# Altium footprint library USB.PcbLib: 54 footprints (part 4 of 4)
Each footprint in its own frame and in the unit in brackets; x right, y up, seen from the top. Pads: shape width x height; smd on the part's side, far side on the other; paste and mask are expansions set on the pad; w line width, h text height; cw(c..) or ccw(c..) is an arc to the next point about the centre after c.
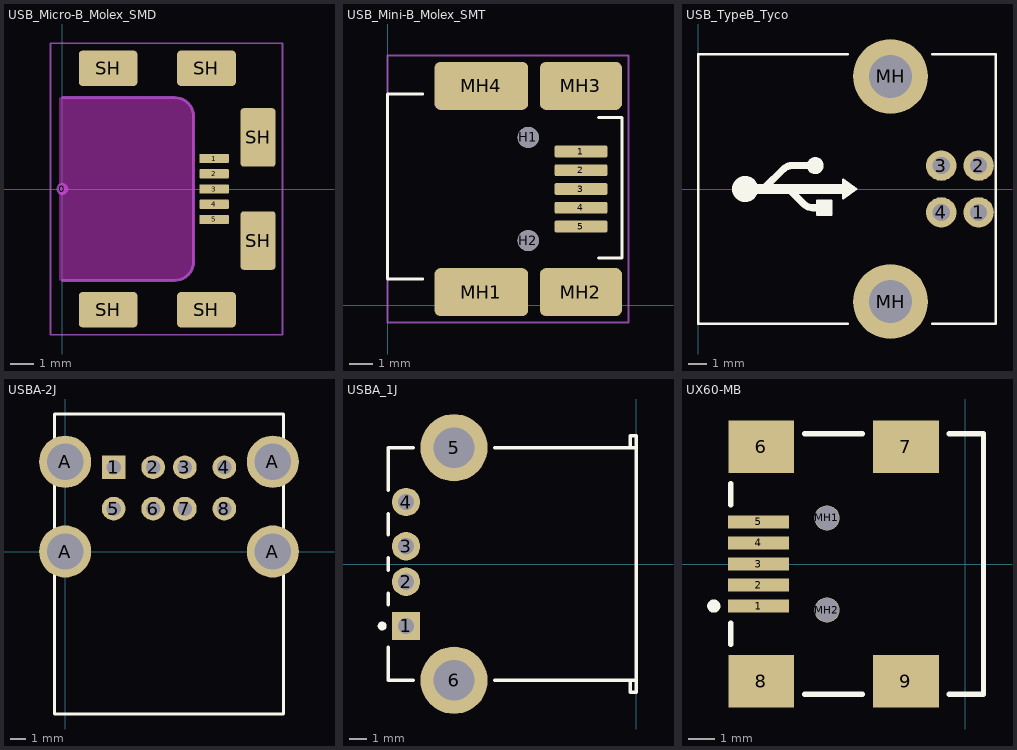
[diagram p3: the footprints below, top view; thin cyan lines are the x and y axes]

## USB_Micro-B_Molex_SMD [mm]
height 1.2
pads (12):
  round 0.508 on Mech15: 0(0,0)
  rrect20% 1.25x0.4 smd: 1(6.475,1.3) 2(6.475,0.65) 3(6.475,0) 4(6.475,-0.65) 5(6.475,-1.3)
  rrect20% 2.5x1.5 smd: SH(1.95,-5.15) SH(1.95,5.15) SH(6.15,-5.15) SH(6.15,5.15)
  rrect20% 1.5x2.5 smd: SH(8.35,-2.2) SH(8.35,2.2)
Top Solder:
  rectangle: 5.842,-1.27 7.112,1.27
Keep-Out Layer:
  board cut-out: -0.127,3.9 4.8,3.9 4.879,3.9 5.033,3.869 5.179,3.809 5.31,3.721 5.421,3.61 5.509,3.479 5.569,3.333 5.6,3.179 5.6,3.1 5.6,-3.1 5.6,-3.179 5.569,-3.333 5.509,-3.479 5.421,-3.61 5.31,-3.721 5.179,-3.809 5.033,-3.869 4.879,-3.9 4.8,-3.9 -0.127,-3.9
Mechanical 13:
  lines w0.127: 0,-3.9 4.8,-3.9 ccw(c4.8,-3.1) 5.6,-3.1 5.6,3.1 ccw(c4.8,3.1) 4.8,3.9 0,3.9
Mechanical 15:
  lines w0.076: -0.5,-6.223 -0.5,6.223 9.398,6.223 9.398,-6.223 -0.5,-6.223
3D body "USB Micro B plug.STEP": height 4.1, standoff -4.1, extent -21.007,-5.35 3.492,5.35
3D body "Micro USB B Receptacle Middle Mount.STEP": height 1.43, standoff -1.52, extent -0.43,-5.5 8.7,5.5

## USB_Mini-B_Molex_SMT [mm]
height 3.95
pads (11):
  rrect25% 2.25x0.5 smd: 1(8.25,6.55) 2(8.25,5.75) 3(8.25,4.95) 4(8.25,4.15) 5(8.25,3.35)
  round 0.9 hole 0.9 unplated: H1(6,7.15) H2(6,2.75)
  rrect25% 4x2.05 smd: MH1(4,0.55) MH4(4,9.35)
  rrect25% 3.5x2.05 smd: MH2(8.25,0.55) MH3(8.25,9.35)
Top Overlay:
  lines w0.127: 1.5,1.1 0,1.1 0,9 1.5,9 ; 9,2 10,2 10,8 9,8
Mechanical 15:
  lines w0.076: 0,-0.75 10.275,-0.75 10.275,10.65 0,10.65 0,-0.75
3D body: height 3.95, standoff 0, extent 0,1.1 9,9

## USB_TypeB_Tyco [mm]
height 11.1
pads (6):
  round 1.626 hole 0.914: 1(14.99,-1.25) 2(14.99,1.25) 3(12.99,1.25) 4(12.99,-1.25)
  round 4 hole 2.3: MH(10.28,-6.02) MH(10.28,6.02)
Top Overlay:
  circle w0.889: c2.5,0 r0.254
  circle w0.508: c6.25,1.25 r0.2
  region: 8.45,0 7.75,-0.5 7.75,0.5
  region: 7.1,-1.375 6.35,-1.375 6.35,-0.625 7.1,-0.625
  lines w0.127: 8,-7.2 0,-7.2 0,7.2 8,7.2 ; 12.5,-7.2 15.9,-7.2 15.9,7.2 12.5,7.2 ; 6.35,-1.375 6.35,-0.625 7.1,-0.625 7.1,-1.375 6.35,-1.375 ; 7.75,-0.5 8.45,0 7.75,0.5 7.75,-0.5
  lines w0.381: 3.547,0.062 4.547,1.062 cw(c5,0.61) 5,1.25 6.25,1.25 ; 4.897,-0.062 5.647,-0.812 ccw(c6.1,-0.36) 6.1,-1 6.35,-1
  lines w0.508: 3,0 7.75,0
3D body "c-0292304-01-b-3d.stp": height 11.5, standoff -3.93, extent 0,-7.194 15.7,7.194

## USBA-2J [mm] "Dual port USB connector"
pads (12):
  rect 1.5x1.5 hole 0.92: 1(3.07,5.33)
  round 1.5 hole 0.92: 2(5.57,5.33) 3(7.57,5.33) 4(10.07,5.33) 5(3.07,2.71) 6(5.57,2.71) 7(7.57,2.71) 8(10.07,2.71)
  round 3.3 hole 2.3: A(0,0) A(0,5.68) A(13.14,0) A(13.14,5.68)
Top Overlay:
  lines w0.2: -0.68,-10.28 13.82,-10.28 13.82,8.7 -0.68,8.7 -0.68,-10.28
3D body "USBA-2J.STEP": height 16.15, standoff -3.99, extent -1.6,-10.29 14.659,6.89

## USBA_1J [mm] "Connector; USB1.1, Reverse Type, Thru-Hole; 4 Position; Right Angle"
height 6.95
pads (6):
  rect 1.6x1.6 hole 0.92: 1(-12.99,-3.5)
  round 1.6 hole 0.92: 2(-12.99,-1) 3(-12.99,1) 4(-12.99,3.5)
  round 3.8 hole 2.3: 5(-10.28,6.57) 6(-10.28,-6.57)
Top Overlay:
  circle w0.25: c-14.34,-3.5 r0.125
  lines w0.2: -14,-4.7 -14,-6.565 -12.58,-6.565 ; -14,-2.3 -14,-1.66 ; -14,-0.34 -14,0.34 ; -14,1.66 -14,2.84 ; -14,4.16 -14,6.565 -12.58,6.565 ; -7.98,-6.565 0,-6.565 ; -7.98,6.565 0,6.565 ; -0.32,-6.565 -0.32,-7.25 0,-7.25 0,-6.565 ; -0.32,6.565 -0.32,7.25 0,7.25 0,6.565 ; 0,-6.565 0,6.565
3D body "USB-1A.STEP": height 7.66, standoff -3.62, extent -14,-8.117 0,8.117

## UX60-MB [mm] "Connector; USB2.0, Type B, SM; 5 Position; Right Angle"
height 3.9
pads (11):
  rect 2.3x0.5 smd: 1(-7.85,-1.6) 2(-7.85,-0.8) 3(-7.85,0) 4(-7.85,0.8) 5(-7.85,1.6)
  rect 2.5x2 smd: 6(-7.75,4.45) 7(-2.25,4.45) 8(-7.75,-4.45) 9(-2.25,-4.45)
  round 0.95 hole 0.9 unplated: MH1(-5.25,1.75) MH2(-5.25,-1.75)
Top Overlay:
  circle w0.25: c-9.55,-1.6 r0.125
  lines w0.2: -8.9,-3.05 -8.9,-2.25 ; -8.9,2.25 -8.9,3.05 ; -6.1,-4.95 -3.9,-4.95 ; -6.1,4.95 -3.9,4.95 ; -0.6,-4.95 0.7,-4.95 0.7,4.95 -0.6,4.95
3D body "mini-usb2.stp": height 3.93, standoff -0.05, extent -8.825,-5.1 0.425,4.8